# EAGLE library part MOLEX_PICO (library mullac)
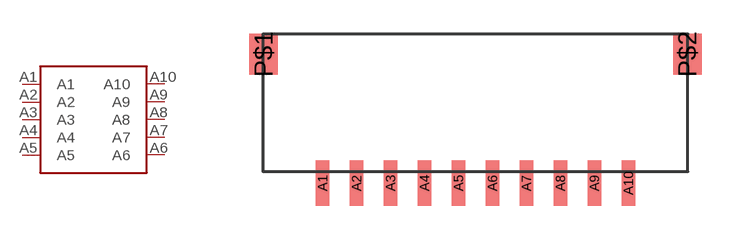
[diagram p1: symbol with the pads of PICO-LOCK; footprint PICO-LOCK]

Designator prefix -

## MOLEX_PICO10  [PICO-LOCK]
A1  A1
A2  A2
A3  A3
A4  A4
A5  A5
A6  A6
A7  A7
A8  A8
A9  A9
A10  A10

## Footprint PICO-LOCK (pad centres in mm)
smd 0.6 x 2: A1 -6.75,-0.5; A2 -5.25,-0.5; A3 -3.75,-0.5; A4 -2.25,-0.5; A5 -0.75,-0.5; A6 0.75,-0.5; A7 2.25,-0.5; A8 3.75,-0.5; A9 5.25,-0.5; A10 6.75,-0.5
smd 1.25 x 1.8: P$1 -9.355,5.2; P$2 9.355,5.2